# Altium footprint library TO-263-3.PcbLib: 1 footprints
Each footprint in its own frame and in the unit in brackets; x right, y up, seen from the top. Pads: shape width x height; smd on the part's side, far side on the other; paste and mask are expansions set on the pad; w line width, h text height; cw(c..) or ccw(c..) is an arc to the next point about the centre after c.
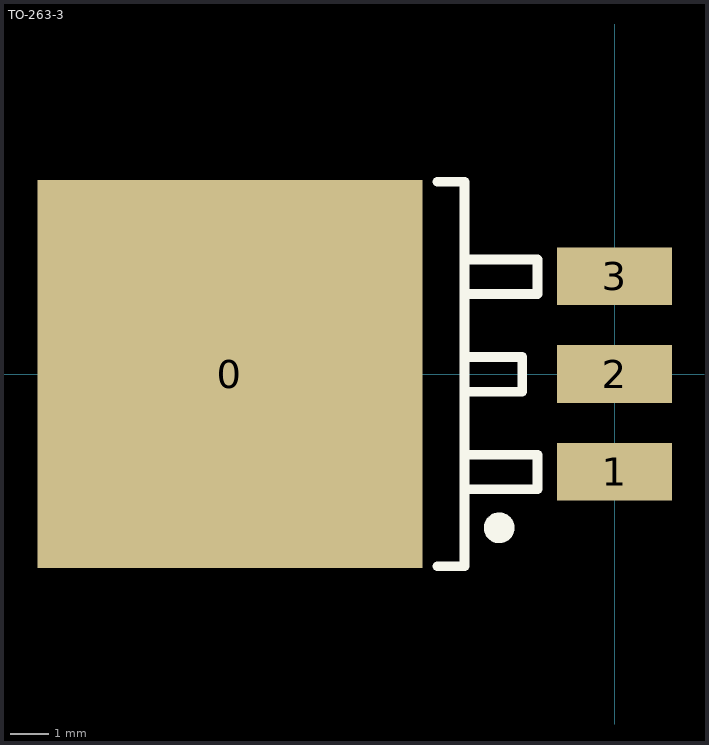
[diagram p0: the footprint, top view; thin cyan lines are the x and y axes]

## TO-263-3 [mm]
pads (4):
  rect 10x10.1 smd: 0(-10,0)
  rect 3x1.5 smd: 1(0,-2.54) 2(0,0) 3(0,2.54)
Top Overlay:
  circle w0.4: c-3,-4 r0.2
  lines w0.254: -4.6,-5 -3.9,-5 -3.9,5 -4.6,5 ; -3.9,-3 -2,-3 -2,-2.1 -3.9,-2.1 ; -3.9,-0.46 -2.4,-0.46 -2.4,0.44 -3.9,0.44 ; -3.9,2.08 -2,2.08 -2,2.98 -3.9,2.98
3D body: height 4.87, standoff 0, extent -13.73,-5.08 0.5,5.08